# EAGLE library part STEPPER-DRIVER (library stepper-driver)
Schrittmotortreiberbaustein
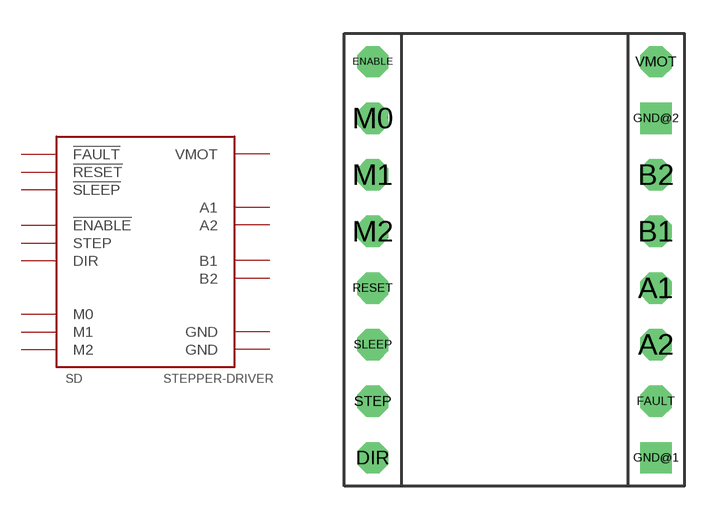
[diagram p0: symbol with the pads of STEPPER-DRIVER; footprint STEPPER-DRIVER]

Designator prefix SD

## STEPPER-DRIVER  [STEPPER-DRIVER]
A1  A1  out
A2  A2  out
B1  B1  out
B2  B2  out
DIR  DIR  in
ENABLE  !ENABLE  in
FAULT  !FAULT  in
GND@1  GND  pwr
GND@2  GND  pwr
M0  M0  in
M1  M1  in
M2  M2  in
RESET  !RESET  in
SLEEP  !SLEEP  in
STEP  STEP  in
VMOT  VMOT  pwr

## Footprint STEPPER-DRIVER (pad centres in mm)
drill 0.9 octagon: A1 6.35,-1.27; A2 6.35,-3.81; B1 6.35,1.27; B2 6.35,3.81; DIR -6.35,-8.89; ENABLE -6.35,8.89; FAULT 6.35,-6.35; M0 -6.35,6.35; M1 -6.35,3.81; M2 -6.35,1.27; RESET -6.35,-1.27; SLEEP -6.35,-3.81; STEP -6.35,-6.35; VMOT 6.35,8.89
drill 0.9 square: GND@1 6.35,-8.89; GND@2 6.35,6.35